# Altium footprint library MAX485_Module_Lib.PcbLib: 1 footprints
Each footprint in its own frame and in the unit in brackets; x right, y up, seen from the top. Pads: shape width x height; smd on the part's side, far side on the other; paste and mask are expansions set on the pad; w line width, h text height; cw(c..) or ccw(c..) is an arc to the next point about the centre after c.
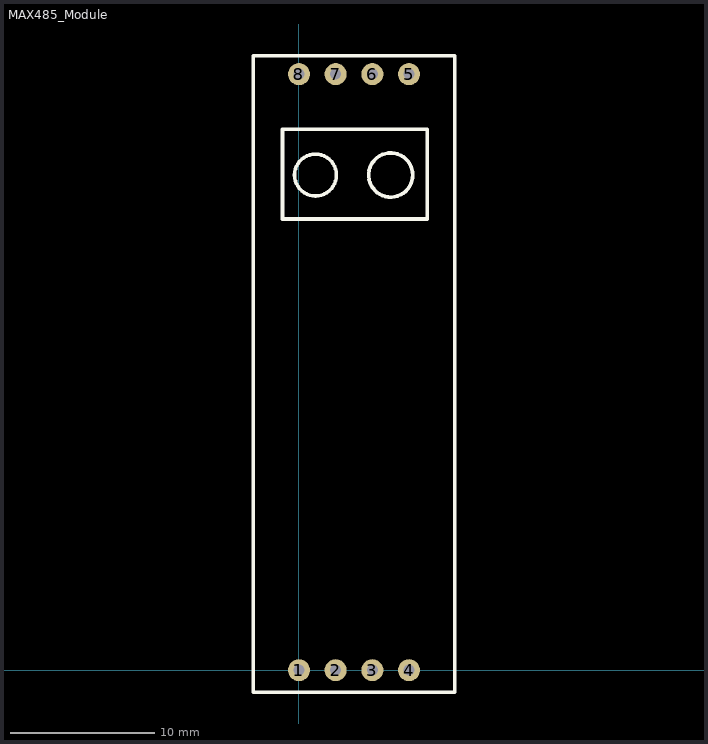
[diagram p0: the footprint, top view; thin cyan lines are the x and y axes]

## MAX485_Module [mil]
pads (8):
  round 60 hole 30: 1(0,0) 2(100,0) 3(200,0) 4(300,0) 5(300,1625) 6(200,1625) 7(100,1625) 8(0,1625)
Top Overlay:
  circle w10: c250,1350 r60.21
  circle w10: c45,1350 r57.01
  lines w10: -125,-60 -125,1675 425,1675 425,-60 -125,-60 ; -45,1230 350,1230 350,1475 -45,1475 -45,1230